# Altium footprint library NodeMCU1.0.PcbLib: 29 footprints (part 1 of 2)
Each footprint in its own frame and in the unit in brackets; x right, y up, seen from the top. Pads: shape width x height; smd on the part's side, far side on the other; paste and mask are expansions set on the pad; w line width, h text height; cw(c..) or ccw(c..) is an arc to the next point about the centre after c.
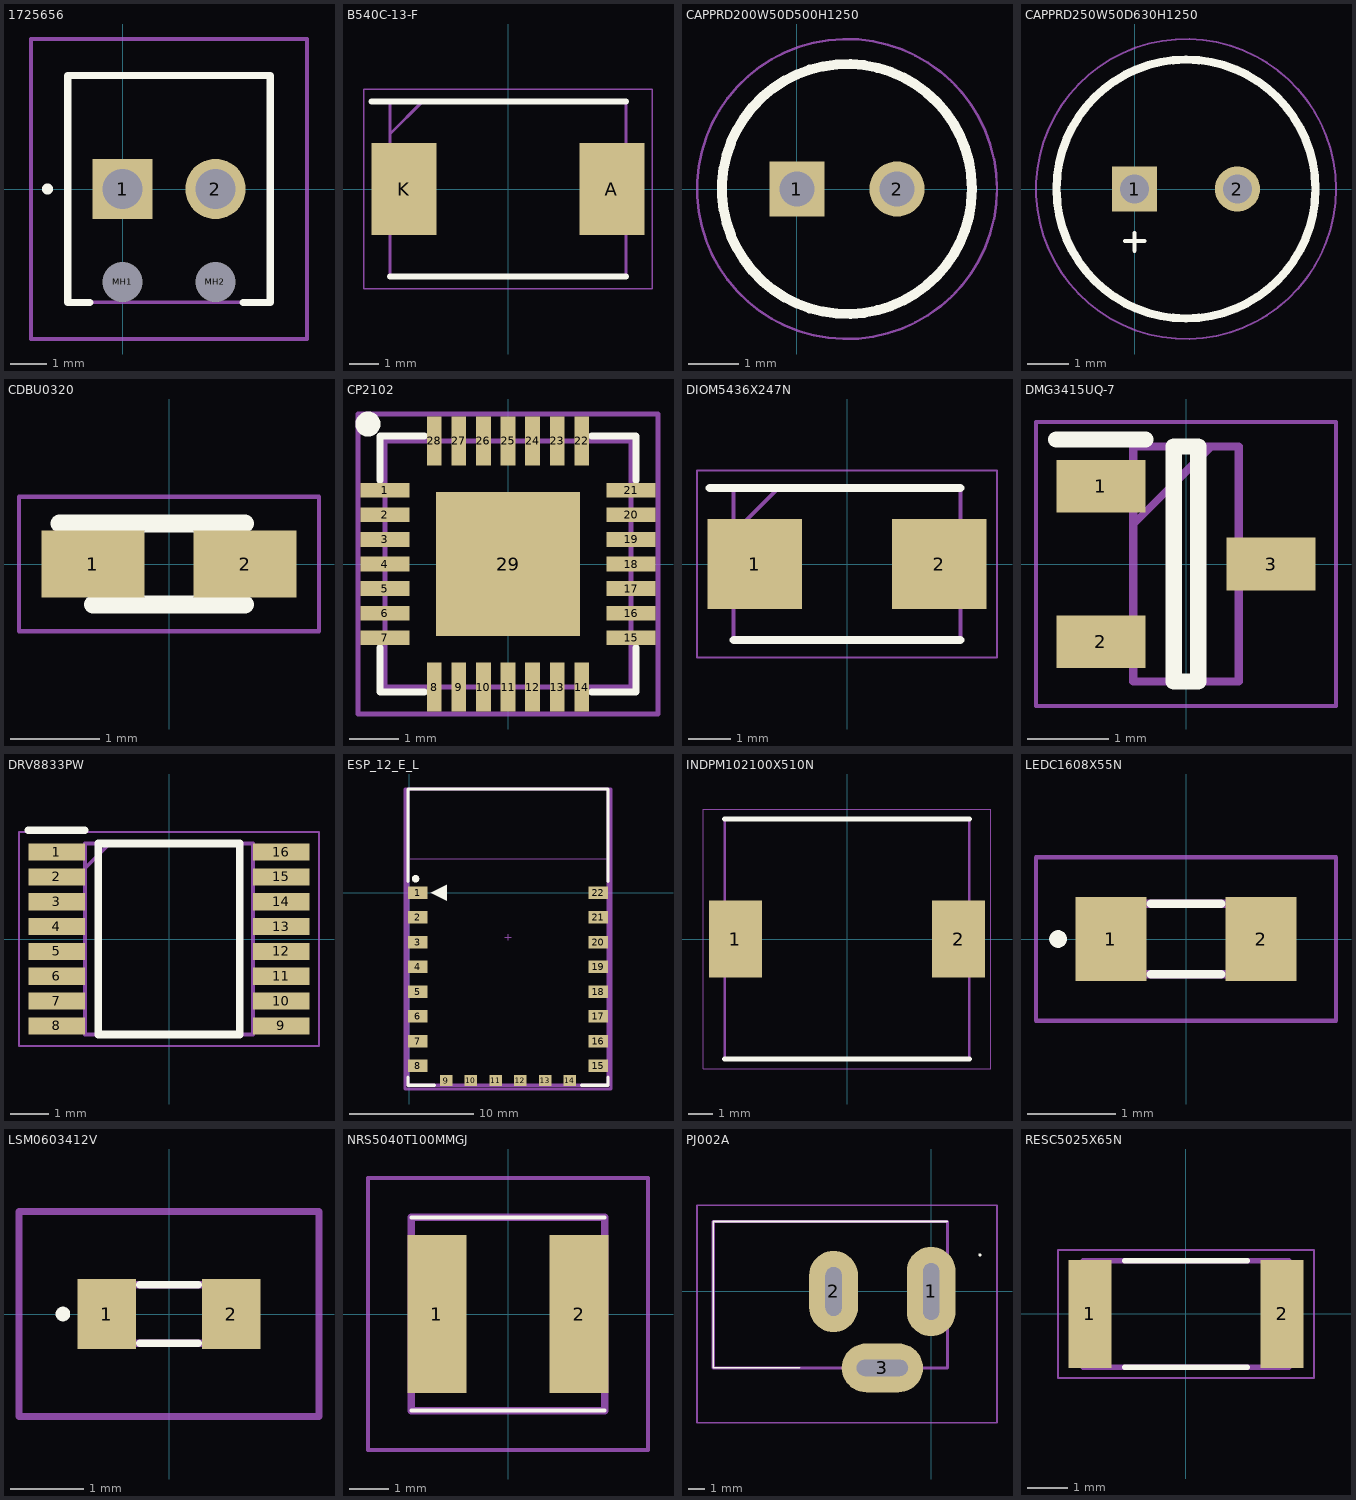
[diagram p0: the footprints below, top view; thin cyan lines are the x and y axes]

## 1725656 [mm]
height 2.8
pads (4):
  rect 1.65x1.65 hole 1.1: 1(0,0)
  round 1.65 hole 1.1: 2(2.54,0)
  round 0.55 hole 1.1 unplated: MH1(0,-2.54) MH2(2.54,-2.54)
Top Overlay:
  lines w0.2: -0.9,-3.1 -1.5,-3.1 -1.5,3.1 4.04,3.1 4.04,-3.1 3.3,-3.1 ; -2.1,0 ccw(c-2.05,0) -2,0 ; -2.1,0 cw(c-2.05,0) -2,0 ; -2.1,0 ccw(c-2.05,0) -2,0
Mechanical 15:
  lines w0.1: -1.5,-3.1 -1.5,3.1 4.04,3.1 4.04,-3.1 -1.5,-3.1
Mechanical 20:
  lines w0.1: -2.5,-4.1 -2.5,4.1 5.04,4.1 5.04,-4.1 -2.5,-4.1
3D body "1725656.stp": height 8.5, standoff -3.5, extent -1.524,-3.1 4.016,3.1

## B540C-13-F [mm]
pads (2):
  rect 2.2x3.1 smd: A(3.5,0) K(-3.5,0)
Top Overlay:
  lines w0.2: -4.6,2.952 3.97,2.952 ; -3.97,-2.952 3.97,-2.952
Mechanical 15:
  lines w0.1: -3.97,1.852 -2.87,2.952 ; -3.97,-2.952 3.97,-2.952 3.97,2.952 -3.97,2.952 -3.97,-2.952
Mechanical 20:
  lines w0.05: -4.85,-3.36 4.85,-3.36 4.85,3.36 -4.85,3.36 -4.85,-3.36
3D body "B540C-13-F.stp": height 2.5, standoff 0, extent -3.97,-2.953 3.97,2.953

## CAPPRD200W50D500H1250 [mm]
pads (2):
  rect 1.1x1.1 hole 0.7: 1(0,0)
  round 1.1 hole 0.7: 2(2,0)
Top Overlay:
  circle w0.2: c1,0 r2.5
Mechanical 15:
  circle w0.1: c1,0 r2.5
Mechanical 20:
  circle w0.05: c1,0 r3

## CAPPRD250W50D630H1250 [mm]
pads (2):
  rect 1.1x1.1 hole 0.7: 1(0,0)
  round 1.1 hole 0.7: 2(2.5,0)
Top Overlay:
  circle w0.2: c1.25,0 r3.15
  lines w0.1: -0.231,-1.27 0.238,-1.27 ; -0.006,-1.503 -0.006,-1.07
Mechanical 15:
  circle w0.1: c1.25,0 r3.15
Mechanical 20:
  circle w0.05: c1.25,0 r3.65
3D body "UPW1E101MED1TD.STEP": height 12.5, standoff -19, extent -1.88,-3.147 4.42,3.147

## CDBU0320 [mm]
height 2.8
pads (2):
  rect 1.15x0.75 smd: 1(-0.85,0) 2(0.85,0)
Top Overlay:
  lines w0.2: -1.225,0.45 0.85,0.45 ; -0.85,-0.45 0.85,-0.45
Mechanical 15:
  lines w0.1: -0.85,0.075 -0.475,0.45 ; -0.85,-0.45 0.85,-0.45 0.85,0.45 -0.85,0.45 -0.85,-0.45
Mechanical 20:
  lines w0.05: -1.675,-0.75 1.675,-0.75 1.675,0.75 -1.675,0.75 -1.675,-0.75
3D body "CDBU0320.stp": height 0.85, standoff 0, extent -0.85,-0.45 0.85,0.45

## CP2102 [mm] "CP2102"
height 1
pads (29):
  rect 1x0.3 smd: 1(-2.5,1.5) 2(-2.5,1) 3(-2.5,0.5) 4(-2.5,0) 5(-2.5,-0.5) 6(-2.5,-1) 7(-2.5,-1.5) 15(2.5,-1.5) 16(2.5,-1) 17(2.5,-0.5) 18(2.5,0) 19(2.5,0.5) 20(2.5,1) 21(2.5,1.5)
  rect 0.3x1 smd: 8(-1.5,-2.5) 9(-1,-2.5) 10(-0.5,-2.5) 11(0,-2.5) 12(0.5,-2.5) 13(1,-2.5) 14(1.5,-2.5) 22(1.5,2.5) 23(1,2.5) 24(0.5,2.5) 25(0,2.5) 26(-0.5,2.5) 27(-1,2.5) 28(-1.5,2.5)
  rect 2.921x2.921 smd paste-3.2: 29(0,0)
Top Overlay:
  circle w0.254: c-2.844,2.844 r0.127
  lines w0.15: -2.6,-1.7 -2.6,-2.6 -1.7,-2.6 ; -2.6,1.7 -2.6,2.6 ; -2.591,2.6 -1.7,2.6 ; 1.7,-2.6 2.6,-2.6 2.6,-1.7 ; 1.7,2.6 2.6,2.6 2.6,1.7
Top Paste:
  region: 1.524,-0.381 1.524,0.381 0.762,0.381 0.762,-0.381
  region: -0.762,-0.381 -0.762,0.381 -1.524,0.381 -1.524,-0.381
  region: 0.381,-0.381 0.381,0.381 -0.381,0.381 -0.381,-0.381
  region: 1.524,-1.524 1.524,-0.762 0.762,-0.762 0.762,-1.524
  region: 0.381,-1.524 0.381,-0.762 -0.381,-0.762 -0.381,-1.524
  region: -1.524,-1.524 -0.762,-1.524 -0.762,-0.762 -1.524,-0.762
  region: -1.524,0.762 -0.762,0.762 -0.762,1.524 -1.524,1.524
  region: -0.381,1.524 -0.381,0.762 0.381,0.762 0.381,1.524
  region: 0.762,1.524 0.762,0.762 1.524,0.762 1.524,1.524
Mechanical 13:
  lines w0.1: -2.5,-2.5 2.5,-2.5 2.5,2.5 -2.5,2.5 -2.5,-2.5
Mechanical 15:
  lines w0.1: -0.5,0 0.5,0 ; 0,-0.5 0,0.5 ; -3.048,-3.048 3.048,-3.048 3.048,3.048 -3.048,3.048 -3.048,-3.048
3D body "User Library-QFN-28-0_5.STEP": height 1, standoff 0, extent -2.5,-2.5 2.5,2.5

## DIOM5436X247N [mm]
pads (2):
  rect 2.25x2.15 smd: 1(-2.2,0) 2(2.2,0)
Top Overlay:
  lines w0.2: -3.275,1.812 2.702,1.812 ; -2.702,-1.812 2.702,-1.812
Mechanical 15:
  lines w0.1: -2.702,0.738 -1.628,1.812 ; -2.702,-1.812 -2.702,1.812 2.702,1.812 2.702,-1.812 -2.702,-1.812
Mechanical 20:
  lines w0.05: -3.575,-2.225 -3.575,2.225 3.575,2.225 3.575,-2.225 -3.575,-2.225
3D body "SS24.stp": height 2.47, standoff 0, extent -2.702,-1.813 2.702,1.813

## DMG3415UQ-7 [mm]
height 2.8
pads (3):
  rect 1.1x0.65 smd: 1(-1.05,0.96) 2(-1.05,-0.96) 3(1.05,0)
Top Overlay:
  lines w0.2: -1.6,1.535 -0.5,1.535 ; -0.15,-1.45 -0.15,1.45 0.15,1.45 0.15,-1.45 -0.15,-1.45
Mechanical 15:
  lines w0.1: -0.65,0.49 0.31,1.45 ; -0.65,-1.45 -0.65,1.45 0.65,1.45 0.65,-1.45 -0.65,-1.45
Mechanical 20:
  lines w0.05: -1.85,-1.75 -1.85,1.75 1.85,1.75 1.85,-1.75 -1.85,-1.75
3D body "DMG3415UQ-7.stp": height 1.1, standoff 0, extent -1.2,-1.45 1.2,1.45

## DRV8833PW [mm]
height 2.8
pads (16):
  rect 1.475x0.45 smd: 1(-2.938,2.275) 2(-2.938,1.625) 3(-2.938,0.975) 4(-2.938,0.325) 5(-2.938,-0.325) 6(-2.938,-0.975) 7(-2.938,-1.625) 8(-2.938,-2.275) 9(2.938,-2.275) 10(2.938,-1.625) 11(2.938,-0.975) 12(2.938,-0.325) 13(2.938,0.325) 14(2.938,0.975) 15(2.938,1.625) 16(2.938,2.275)
Top Overlay:
  lines w0.2: -3.675,2.85 -2.2,2.85 ; -1.85,-2.5 1.85,-2.5 1.85,2.5 -1.85,2.5 -1.85,-2.5
Mechanical 15:
  lines w0.1: -2.2,1.85 -1.55,2.5 ; -2.2,-2.5 2.2,-2.5 2.2,2.5 -2.2,2.5 -2.2,-2.5
Mechanical 20:
  lines w0.05: -3.925,-2.8 3.925,-2.8 3.925,2.8 -3.925,2.8 -3.925,-2.8
3D body "DRV8833PW.stp": height 1.13, standoff 0, extent -3.2,-2.5 3.2,2.5

## ESP_12_E_L [mm] "ESP-12 Wi-Fi Module by AI-Thinker"
height 3.2
pads (22):
  rect 1.6x1 smd: 1(0.7,0) 2(0.7,-2) 3(0.7,-4) 4(0.7,-6) 5(0.7,-8) 6(0.7,-10) 7(0.7,-12) 8(0.7,-14) 15(15.3,-14) 16(15.3,-12) 17(15.3,-10) 18(15.3,-8) 19(15.3,-6) 20(15.3,-4) 21(15.3,-2) 22(15.3,0)
  rect 1x0.9 smd: 9(3,-15.2) 10(5,-15.2) 11(7,-15.2) 12(9,-15.2) 13(11,-15.2) 14(13,-15.2)
Top Overlay:
  circle w0.3: c0.525,1.125 r0.15
  region: 1.77,0 3.04,-0.635 3.04,0.635
  lines w0.254: -0.084,-14.916 -0.084,-15.568 2.068,-15.568 ; -0.084,0.916 -0.084,8.371 16.084,8.371 16.084,0.916 ; 13.932,-15.568 16.084,-15.568 16.084,-14.916
Mechanical 13:
  lines w0.051: -0.127,2.727 16.129,2.727 16.129,8.382 -0.127,8.382 -0.127,2.727
  lines w0.254: -0.084,-15.568 -0.084,8.371 16.084,8.371 16.084,-15.568 -0.084,-15.568
  text "ANTENNA AREA" at 1.499,7.823 h0.25
  text "CUTOUT POLYGON" at 1.499,7.315 h0.25
Mechanical 15:
  lines w0.1: 7.746,-3.598 8.254,-3.598 ; 8,-3.852 8,-3.344
  lines w0.254: -0.325,-15.875 16.325,-15.875 16.325,8.371 -0.325,8.371 -0.325,-15.875
3D body "ESP_12_E.STEP": height 2.75, standoff 0.04, extent 0.001,-15.491 16.001,8.509

## INDPM102100X510N [mm]
pads (2):
  rect 2.2x3.2 smd: 1(-4.65,0) 2(4.65,0)
Top Overlay:
  lines w0.2: -5.1,-5 5.1,-5 ; -5.1,5 5.1,5
Mechanical 15:
  lines w0.1: -5.1,-5 -5.1,5 5.1,5 5.1,-5 -5.1,-5
Mechanical 20:
  lines w0.05: -6,-5.4 -6,5.4 6,5.4 6,-5.4 -6,-5.4
3D body "SRR1050HA-390Y.stp": height 4.72, standoff 0.02, extent -7.011,-6.76 7.176,6.7

## LEDC1608X55N [mm]
height 2.8
pads (2):
  rect 0.8x0.95 smd: 1(-0.85,0) 2(0.85,0)
Top Overlay:
  lines w0.1: -0.4,-0.4 0.4,-0.4 ; -0.4,0.4 0.4,0.4 ; -1.5,0 ccw(c-1.45,0) -1.4,0 ccw(c-1.45,0) -1.5,0
Mechanical 15:
  lines w0.1: -0.8,0.133 -0.533,0.4 ; -0.8,-0.4 0.8,-0.4 0.8,0.4 -0.8,0.4 -0.8,-0.4
Mechanical 20:
  lines w0.05: -1.7,-0.925 1.7,-0.925 1.7,0.925 -1.7,0.925 -1.7,-0.925
3D body "LSM0603453V.stp": height 0.55, standoff -0.03, extent -0.8,-0.4 0.8,0.4

## LSM0603412V [mm]
height 2.8
pads (2):
  rect 0.8x0.95 smd: 1(-0.85,0) 2(0.85,0)
Top Overlay:
  lines w0.1: -0.4,-0.4 0.4,-0.4 ; -0.4,0.4 0.4,0.4 ; -1.5,0 cw(c-1.45,0) -1.4,0 cw(c-1.45,0) -1.5,0
Mechanical 15:
  lines w0.1: -0.8,0.133 -0.533,0.4 ; -0.8,-0.4 0.8,-0.4 0.8,0.4 -0.8,0.4 -0.8,-0.4
Mechanical 20:
  lines w0.1: -2.05,-1.4 2.05,-1.4 2.05,1.4 -2.05,1.4 -2.05,-1.4
3D body "LSM0603412V.stp": height 0.55, standoff -0.03, extent -0.798,-0.401 0.802,0.399

## NRS5040T100MMGJ [mm]
pads (2):
  rect 1.5x4 smd: 1(-1.8,0) 2(1.8,0)
Top Overlay:
  lines w0.1: -2.45,-2.45 2.45,-2.45 ; -2.45,2.45 2.45,2.45
Mechanical 15:
  lines w0.2: -2.45,-2.45 -2.45,2.45 2.45,2.45 2.45,-2.45 -2.45,-2.45
Mechanical 20:
  lines w0.1: -3.55,-3.45 -3.55,3.45 3.55,3.45 3.55,-3.45 -3.55,-3.45
3D body "NRS5040T100MMGJ.stp": height 4.1, standoff 0, extent -2.45,-2.45 2.45,2.45

## PJ002A [mm]
height 2.8
pads (3):
  oval 3x5.5 hole 1 slot 3.5 at 90 deg: 1(0,0)
  oval 3x5 hole 1 slot 3 at 90 deg: 2(-6,0)
  oval 5x3 hole 1 slot 3.16 at 0 deg: 3(-3,-4.7)
Top Overlay:
  lines w0.1: -8.08,-4.7 -13.4,-4.7 -13.4,4.3 1,4.3 ; 3,2.2 ccw(c3,2.25) 3,2.3 ccw(c3,2.25) 3,2.2
Mechanical 15:
  lines w0.2: -13.4,-4.7 1,-4.7 1,4.3 -13.4,4.3 -13.4,-4.7
Mechanical 20:
  lines w0.1: -14.4,-8.07 4.05,-8.07 4.05,5.3 -14.4,5.3 -14.4,-8.07
3D body "PJ-002A.stp": height 11.09, standoff -3.41, extent -13.423,-4.828 0.977,4.572

## RESC5025X65N [mm]
pads (2):
  rect 1.07x2.67 smd: 1(-2.38,0) 2(2.38,0)
Top Overlay:
  lines w0.127: -1.52,-1.32 1.52,-1.32 ; -1.52,1.32 1.52,1.32
Mechanical 13:
  lines w0.127: -2.55,-1.32 2.55,-1.32 2.55,1.32 -2.55,1.32 -2.55,-1.32
Mechanical 15:
  lines w0.05: -3.165,-1.585 3.165,-1.585 3.165,1.585 -3.165,1.585 -3.165,-1.585
3D body "step_temp.STEP": height 0.65, standoff 0, extent -2.5,-1.25 2.5,1.25